# Altium integrated library TI Power Management Battery Management.IntLib: 949 symbols (part 15 of 62)
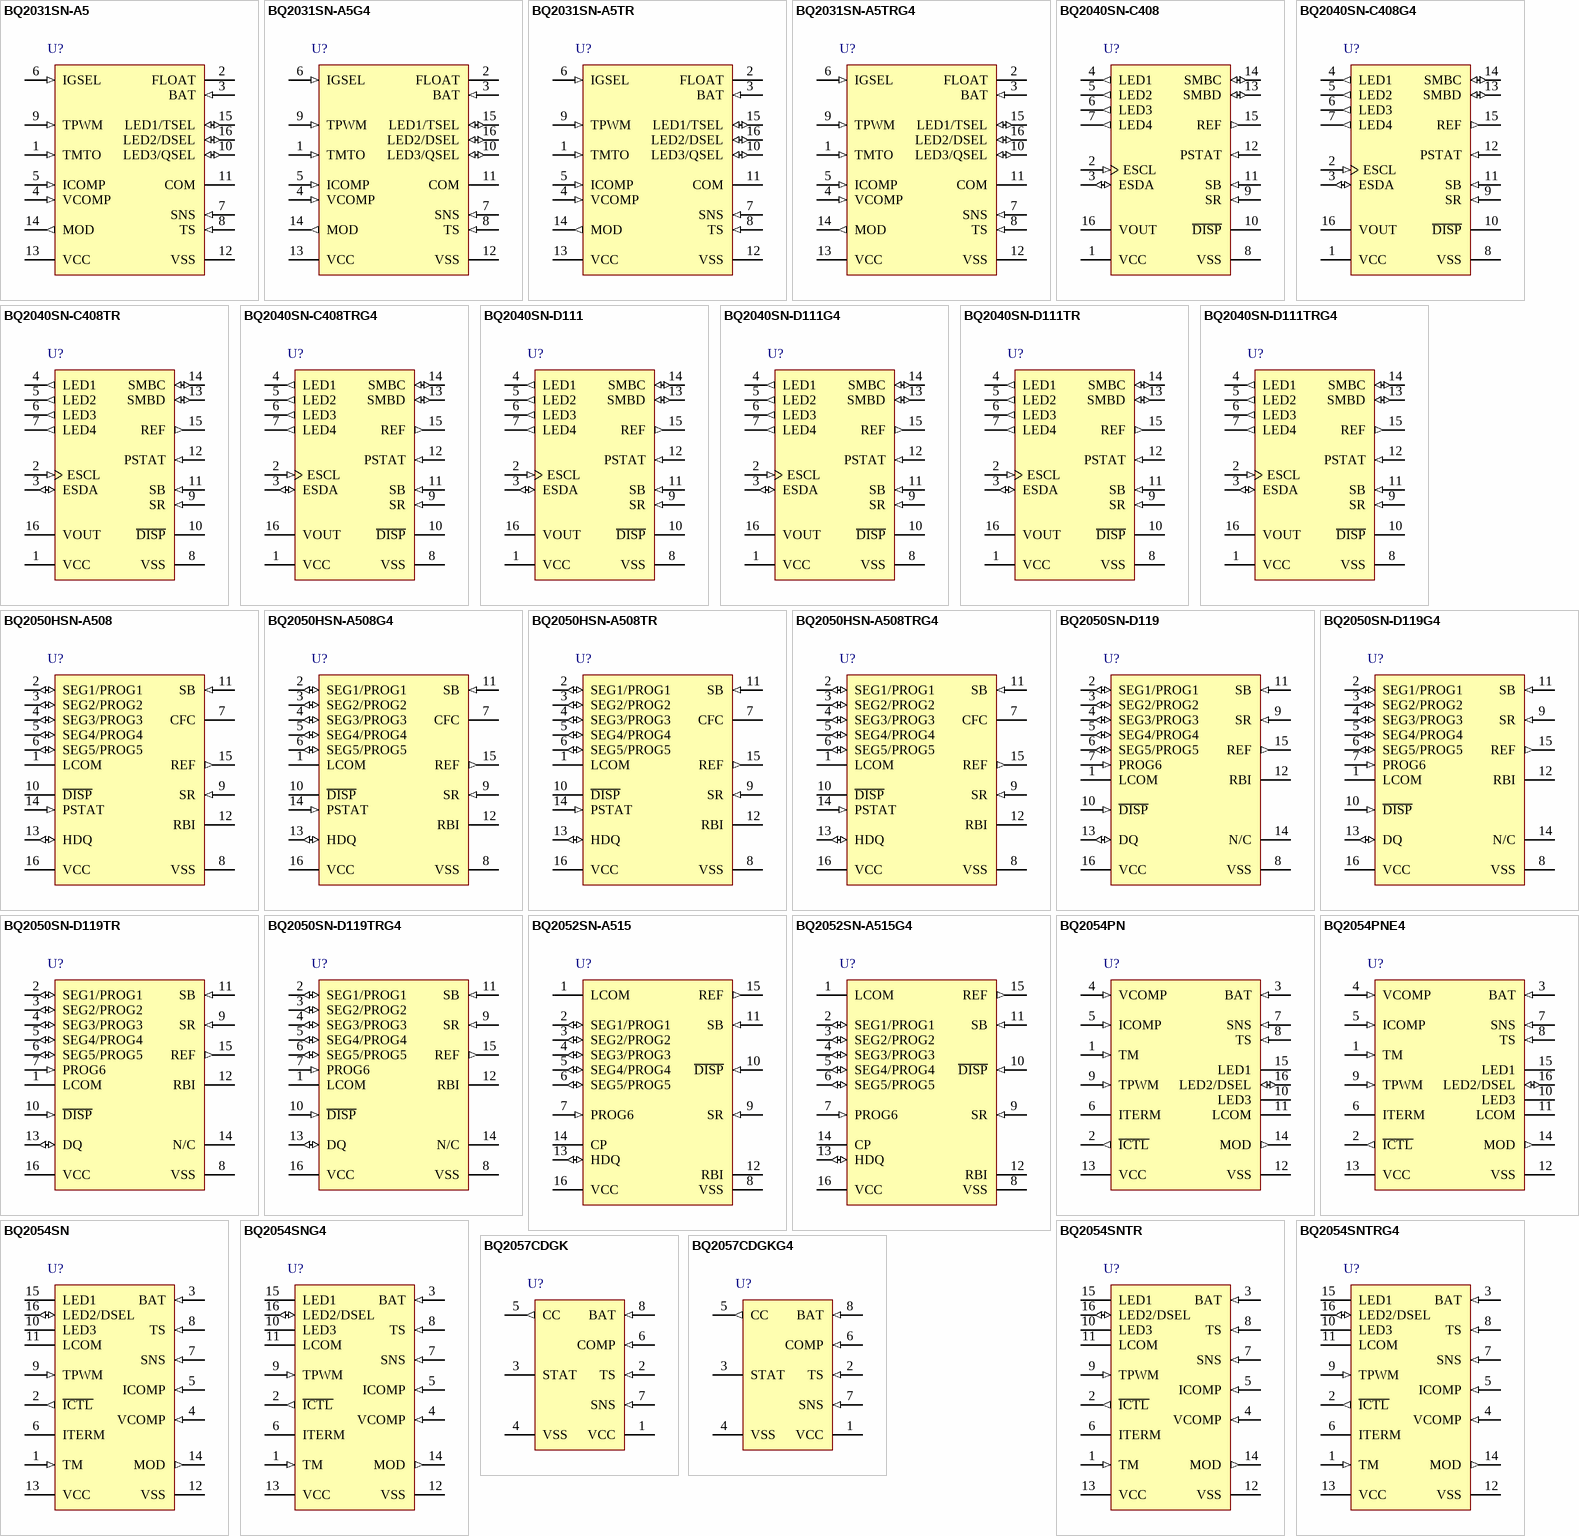
[diagram p48: symbols BQ2031SN-A5 to BQ2057CDGKG4]

## BQ2050SN-D119
designator U?
Li-Ion Gas Gauge with High-Speed 1-Wire (HDQ) Interface and 5 LED Drivers, 0 to 70 degC, 16-pin SOIC (D), Green (RoHS & no Sb/Br); PartNumber: BQ2050SN-D119; Manufacturer: Texas Instruments; Lead Acid: N; Li-Ion: Y; SubFamily: Battery Fuel Gauge; PackageVersion: revM, Jun-2011; PackageReference: D16; PackageDescription: 16-Pin Plastic Small Outline Integrated Circuit, 9.9 x 3.9 mm, Pitch 1.27 mm Pitch; Supplier 1: Digi-Key; Supplier Part Number 1: 296-2225-5-ND; Supplier 2: Newark; Supplier Part Number 2: 35C1600; Supplier 3: Mouser; Supplier Part Number 3: 595-BQ2050SN-D119; Eco-Plan: Green (RoHS & no Sb/Br); Li-Polymer: N; NiCd: N; NiMH: N; Over Voltage Protection: N; Mounting Technology: Surface Mount; Code_JEDEC: MS-012AC; ComponentLink1Description: Datasheet; ComponentLink1URL: http://www.ti.com/general/docs/lit/getliterature.tsp?genericPartNumber=BQ2050&fileType=pdf
footprint D16_N (SOIC, 16-Leads, Body 9.9x3.9mm, Pitch 1.27mm, IPC Medium Density)
footprint D16_L (SOIC, 16-Leads, Body 9.9x3.9mm, Pitch 1.27mm, IPC High Density)
footprint D16_M (SOIC, 16-Leads, Body 9.9x3.9mm, Pitch 1.27mm, IPC Low Density)
pins: 1 LCOM (hiz) "Open-drain output switches VCC to source current for the LEDs. The switch is off during initialization to allow reading of the soft pull-up or pull-down program resistors.LCOM is also high impedance when the display is off.", 2 SEG1/PROG1 (io) "Each output may activate an LED to sink the current sourced from LCOM./These three-level input pins define the programmed full count (PFC) thresholds described in Table 2.", 3 SEG2/PROG2 (io) "Each output may activate an LED to sink the current sourced from LCOM./These three-level input pins define the programmed full count (PFC) thresholds described in Table 2.", 4 SEG3/PROG3 (io) "Each output may activate an LED to sink the current sourced from LCOM./These three-level input pins define the scale factor described in Table 2.", 5 SEG4/PROG4 (io) "Each output may activate an LED to sink the current sourced from LCOM./These three-level input pins define the scale factor described in Table 2.", 6 SEG5/PROG5 (io) "Each output may activate an LED to sink the current sourced from LCOM./This three-level input pin defines the selfdischarge and battery compensation factors as shown in Table 1.", 7 PROG6 (in) "This three-level pin defines the battery state of charge at reset as shown in Table 1.", 8 VSS (power) "Ground", 9 SR (in) "The voltage drop (VSR) across the sense resistor RS is monitored and integrated over time to interpret charge and discharge activity.The SR input is tied between the negative terminal of the battery and the sense resistor.(See Datasheet)", 10 ~{DISP} (in) "D\I\S\P\ high disables the LED display.D\I\S\P\ tied to VCC allows PROGX to connect directly to VCC or VSS instead of through a pull-up or pull-down resistor.D\I\S\P\ floating allows the LED display to be active during (See Datasheet)", 11 SB (in) "This input monitors the battery cell voltage potential through a high-impedance resistive divider network for end-of-discharge voltage (EDV) thresholds, and battery removed.", 12 RBI (power) "This pin is used to provide backup potential to the bq2050 registers during periods when VCC =< 3V. A storage capacitor or a battery can be connected to RBI.", 13 DQ (io) "This is an open-drain bidirectional pin.", 14 N/C "No connect", 15 REF (out) "REF provides a voltage reference output for an optional micro-regulator.", 16 VCC (power) "Supply voltage input"

## BQ2050SN-D119G4
designator U?
Li-Ion Gas Gauge with High-Speed 1-Wire (HDQ) Interface and 5 LED Drivers, 0 to 70 degC, 16-pin SOIC (D), Green (RoHS & no Sb/Br); PartNumber: BQ2050SN-D119G4; Manufacturer: Texas Instruments; Lead Acid: N; Li-Ion: Y; SubFamily: Battery Fuel Gauge; PackageVersion: revM, Jun-2011; PackageReference: D16; PackageDescription: 16-Pin Plastic Small Outline Integrated Circuit, 9.9 x 3.9 mm, Pitch 1.27 mm Pitch; Supplier 1: Digi-Key; Supplier Part Number 1: BQ2050SN-D119G4-ND; Supplier 2: Newark; Supplier Part Number 2: 69K8924; Supplier 3: Mouser; Supplier Part Number 3: 595-BQ2050SN-D119G4; Eco-Plan: Green (RoHS & no Sb/Br); Li-Polymer: N; NiCd: N; NiMH: N; Over Voltage Protection: N; Mounting Technology: Surface Mount; Code_JEDEC: MS-012AC; ComponentLink1Description: Datasheet; ComponentLink1URL: http://www.ti.com/general/docs/lit/getliterature.tsp?genericPartNumber=BQ2050&fileType=pdf
footprint D16_N (SOIC, 16-Leads, Body 9.9x3.9mm, Pitch 1.27mm, IPC Medium Density)
footprint D16_L (SOIC, 16-Leads, Body 9.9x3.9mm, Pitch 1.27mm, IPC High Density)
footprint D16_M (SOIC, 16-Leads, Body 9.9x3.9mm, Pitch 1.27mm, IPC Low Density)
pins: 1 LCOM (hiz) "Open-drain output switches VCC to source current for the LEDs. The switch is off during initialization to allow reading of the soft pull-up or pull-down program resistors.LCOM is also high impedance when the display is off.", 2 SEG1/PROG1 (io) "Each output may activate an LED to sink the current sourced from LCOM./These three-level input pins define the programmed full count (PFC) thresholds described in Table 2.", 3 SEG2/PROG2 (io) "Each output may activate an LED to sink the current sourced from LCOM./These three-level input pins define the programmed full count (PFC) thresholds described in Table 2.", 4 SEG3/PROG3 (io) "Each output may activate an LED to sink the current sourced from LCOM./These three-level input pins define the scale factor described in Table 2.", 5 SEG4/PROG4 (io) "Each output may activate an LED to sink the current sourced from LCOM./These three-level input pins define the scale factor described in Table 2.", 6 SEG5/PROG5 (io) "Each output may activate an LED to sink the current sourced from LCOM./This three-level input pin defines the selfdischarge and battery compensation factors as shown in Table 1.", 7 PROG6 (in) "This three-level pin defines the battery state of charge at reset as shown in Table 1.", 8 VSS (power) "Ground", 9 SR (in) "The voltage drop (VSR) across the sense resistor RS is monitored and integrated over time to interpret charge and discharge activity.The SR input is tied between the negative terminal of the battery and the sense resistor.(See Datasheet)", 10 ~{DISP} (in) "D\I\S\P\ high disables the LED display.D\I\S\P\ tied to VCC allows PROGX to connect directly to VCC or VSS instead of through a pull-up or pull-down resistor.D\I\S\P\ floating allows the LED display to be active during (See Datasheet)", 11 SB (in) "This input monitors the battery cell voltage potential through a high-impedance resistive divider network for end-of-discharge voltage (EDV) thresholds, and battery removed.", 12 RBI (power) "This pin is used to provide backup potential to the bq2050 registers during periods when VCC =< 3V. A storage capacitor or a battery can be connected to RBI.", 13 DQ (io) "This is an open-drain bidirectional pin.", 14 N/C "No connect", 15 REF (out) "REF provides a voltage reference output for an optional micro-regulator.", 16 VCC (power) "Supply voltage input"

## BQ2050SN-D119TR
designator U?
Li-Ion Gas Gauge with High-Speed 1-Wire (HDQ) Interface and 5 LED Drivers, 0 to 70 degC, 16-pin SOIC (D), Green (RoHS & no Sb/Br); PartNumber: BQ2050SN-D119TR; Manufacturer: Texas Instruments; Lead Acid: N; Li-Ion: Y; SubFamily: Battery Fuel Gauge; PackageVersion: revM, Jun-2011; PackageReference: D16; PackageDescription: 16-Pin Plastic Small Outline Integrated Circuit, 9.9 x 3.9 mm, Pitch 1.27 mm Pitch; Supplier 1: Digi-Key; Supplier Part Number 1: BQ2050SN-D119TR-ND; Supplier 2: Newark; Supplier Part Number 2: 74C7578; Supplier 3: Mouser; Supplier Part Number 3: 595-BQ2050SN-D119TR; Eco-Plan: Green (RoHS & no Sb/Br); Li-Polymer: N; NiCd: N; NiMH: N; Over Voltage Protection: N; Mounting Technology: Surface Mount; Code_JEDEC: MS-012AC; ComponentLink1Description: Datasheet; ComponentLink1URL: http://www.ti.com/general/docs/lit/getliterature.tsp?genericPartNumber=BQ2050&fileType=pdf
footprint D16_N (SOIC, 16-Leads, Body 9.9x3.9mm, Pitch 1.27mm, IPC Medium Density)
footprint D16_L (SOIC, 16-Leads, Body 9.9x3.9mm, Pitch 1.27mm, IPC High Density)
footprint D16_M (SOIC, 16-Leads, Body 9.9x3.9mm, Pitch 1.27mm, IPC Low Density)
pins: 1 LCOM (hiz) "Open-drain output switches VCC to source current for the LEDs. The switch is off during initialization to allow reading of the soft pull-up or pull-down program resistors.LCOM is also high impedance when the display is off.", 2 SEG1/PROG1 (io) "Each output may activate an LED to sink the current sourced from LCOM./These three-level input pins define the programmed full count (PFC) thresholds described in Table 2.", 3 SEG2/PROG2 (io) "Each output may activate an LED to sink the current sourced from LCOM./These three-level input pins define the programmed full count (PFC) thresholds described in Table 2.", 4 SEG3/PROG3 (io) "Each output may activate an LED to sink the current sourced from LCOM./These three-level input pins define the scale factor described in Table 2.", 5 SEG4/PROG4 (io) "Each output may activate an LED to sink the current sourced from LCOM./These three-level input pins define the scale factor described in Table 2.", 6 SEG5/PROG5 (io) "Each output may activate an LED to sink the current sourced from LCOM./This three-level input pin defines the selfdischarge and battery compensation factors as shown in Table 1.", 7 PROG6 (in) "This three-level pin defines the battery state of charge at reset as shown in Table 1.", 8 VSS (power) "Ground", 9 SR (in) "The voltage drop (VSR) across the sense resistor RS is monitored and integrated over time to interpret charge and discharge activity.The SR input is tied between the negative terminal of the battery and the sense resistor.(See Datasheet)", 10 ~{DISP} (in) "D\I\S\P\ high disables the LED display.D\I\S\P\ tied to VCC allows PROGX to connect directly to VCC or VSS instead of through a pull-up or pull-down resistor.D\I\S\P\ floating allows the LED display to be active during (See Datasheet)", 11 SB (in) "This input monitors the battery cell voltage potential through a high-impedance resistive divider network for end-of-discharge voltage (EDV) thresholds, and battery removed.", 12 RBI (power) "This pin is used to provide backup potential to the bq2050 registers during periods when VCC =< 3V. A storage capacitor or a battery can be connected to RBI.", 13 DQ (io) "This is an open-drain bidirectional pin.", 14 N/C "No connect", 15 REF (out) "REF provides a voltage reference output for an optional micro-regulator.", 16 VCC (power) "Supply voltage input"

## BQ2050SN-D119TRG4
designator U?
Li-Ion Gas Gauge with High-Speed 1-Wire (HDQ) Interface and 5 LED Drivers, 0 to 70 degC, 16-pin SOIC (D), Green (RoHS & no Sb/Br); PartNumber: BQ2050SN-D119TRG4; Manufacturer: Texas Instruments; Lead Acid: N; Li-Ion: Y; SubFamily: Battery Fuel Gauge; PackageVersion: revM, Jun-2011; PackageReference: D16; PackageDescription: 16-Pin Plastic Small Outline Integrated Circuit, 9.9 x 3.9 mm, Pitch 1.27 mm Pitch; Supplier 1: Digi-Key; Supplier Part Number 1: BQ2050SN-D119TRG4-ND; Supplier 2: Newark; Supplier Part Number 2: 53K9220; Supplier 3: Mouser; Supplier Part Number 3: 595-BQ2050SND119TRG4; Eco-Plan: Green (RoHS & no Sb/Br); Li-Polymer: N; NiCd: N; NiMH: N; Over Voltage Protection: N; Mounting Technology: Surface Mount; Code_JEDEC: MS-012AC; ComponentLink1Description: Datasheet; ComponentLink1URL: http://www.ti.com/general/docs/lit/getliterature.tsp?genericPartNumber=BQ2050&fileType=pdf
footprint D16_N (SOIC, 16-Leads, Body 9.9x3.9mm, Pitch 1.27mm, IPC Medium Density)
footprint D16_L (SOIC, 16-Leads, Body 9.9x3.9mm, Pitch 1.27mm, IPC High Density)
footprint D16_M (SOIC, 16-Leads, Body 9.9x3.9mm, Pitch 1.27mm, IPC Low Density)
pins: 1 LCOM (hiz) "Open-drain output switches VCC to source current for the LEDs. The switch is off during initialization to allow reading of the soft pull-up or pull-down program resistors.LCOM is also high impedance when the display is off.", 2 SEG1/PROG1 (io) "Each output may activate an LED to sink the current sourced from LCOM./These three-level input pins define the programmed full count (PFC) thresholds described in Table 2.", 3 SEG2/PROG2 (io) "Each output may activate an LED to sink the current sourced from LCOM./These three-level input pins define the programmed full count (PFC) thresholds described in Table 2.", 4 SEG3/PROG3 (io) "Each output may activate an LED to sink the current sourced from LCOM./These three-level input pins define the scale factor described in Table 2.", 5 SEG4/PROG4 (io) "Each output may activate an LED to sink the current sourced from LCOM./These three-level input pins define the scale factor described in Table 2.", 6 SEG5/PROG5 (io) "Each output may activate an LED to sink the current sourced from LCOM./This three-level input pin defines the selfdischarge and battery compensation factors as shown in Table 1.", 7 PROG6 (in) "This three-level pin defines the battery state of charge at reset as shown in Table 1.", 8 VSS (power) "Ground", 9 SR (in) "The voltage drop (VSR) across the sense resistor RS is monitored and integrated over time to interpret charge and discharge activity.The SR input is tied between the negative terminal of the battery and the sense resistor.(See Datasheet)", 10 ~{DISP} (in) "D\I\S\P\ high disables the LED display.D\I\S\P\ tied to VCC allows PROGX to connect directly to VCC or VSS instead of through a pull-up or pull-down resistor.D\I\S\P\ floating allows the LED display to be active during (See Datasheet)", 11 SB (in) "This input monitors the battery cell voltage potential through a high-impedance resistive divider network for end-of-discharge voltage (EDV) thresholds, and battery removed.", 12 RBI (power) "This pin is used to provide backup potential to the bq2050 registers during periods when VCC =< 3V. A storage capacitor or a battery can be connected to RBI.", 13 DQ (io) "This is an open-drain bidirectional pin.", 14 N/C "No connect", 15 REF (out) "REF provides a voltage reference output for an optional micro-regulator.", 16 VCC (power) "Supply voltage input"

## BQ2052SN-A515
designator U?
Primary Lithium Gas Gauge with High-Speed 1-Wire (HDQ) Interface, 3 Prgmable LED Patterns, -20 to 70 degC, 16-pin SOIC (D), Green (RoHS & no Sb/Br); PartNumber: BQ2052SN-A515; Manufacturer: Texas Instruments; Lead Acid: N; SubFamily: Battery Fuel Gauge; DatasheetVersion: SLUS019; PackageVersion: revM, Jun-2011; PackageReference: D16; PackageDescription: 16-Pin Plastic Small Outline Integrated Circuit, 9.9 x 3.9 mm, Pitch 1.27 mm Pitch; Supplier 1: Digi-Key; Supplier Part Number 1: 296-9355-5-ND; Supplier 2: Newark; Supplier Part Number 2: 74C7580; Supplier 3: Mouser; Supplier Part Number 3: 595-BQ2052SN-A515; Eco-Plan: Green (RoHS & no Sb/Br); Li-Ion: N; Li-Polymer: N; NiCd: N; NiMH: N; Over Voltage Protection: N; Mounting Technology: Surface Mount; Code_JEDEC: MS-012AC; ComponentLink1Description: Datasheet; ComponentLink1URL: http://www.ti.com/general/docs/lit/getliterature.tsp?genericPartNumber=BQ2052&fileType=pdf
footprint D16_N (SOIC, 16-Leads, Body 9.9x3.9mm, Pitch 1.27mm, IPC Medium Density)
footprint D16_L (SOIC, 16-Leads, Body 9.9x3.9mm, Pitch 1.27mm, IPC High Density)
footprint D16_M (SOIC, 16-Leads, Body 9.9x3.9mm, Pitch 1.27mm, IPC Low Density)
pins: 1 LCOM (hiz) "This open-drain output switches VCC to source current for the LEDs. The switch is off during initialization to allow reading of the soft pull-up or pull-down program resistors.LCOM is also high impedance when the display is (See Datasheet)", 2 SEG1/PROG1 (io) "Each output may activate an LED to sink the current sourced from LCOM./These three-level input pins define the programmed full count.", 3 SEG2/PROG2 (io) "Each output may activate an LED to sink the current sourced from LCOM./These three-level input pins define the programmed full count.", 4 SEG3/PROG3 (io) "Each output may activate an LED to sink the current sourced from LCOM./This three-level input pin defines the scale factor.", 5 SEG4/PROG4 (io) "Each output may activate an LED to sink the current sourced from LCOM./This three-level input pin defines the battery discharge compensation factors.", 6 SEG5/PROG5 (io) "Each output may activate an LED to sink the current sourced from LCOM./This three-level input pin defines the capacity indication display mode.", 7 PROG6 (in) "This input defines the initial battery capacity indication state.When tied to VCC,the bq2052 sets the available capacity to full on reset.When tied to VSS, the bq2052 sets the available capacity to zero on reset.", 8 VSS (power) "Ground", 9 SR (in) "The voltage drop (VSR) across the sense resistor RS is monitored and integrated over time to interpret discharge activity. VSR > VSS indicates discharge. The effective voltage drop, VSRO, as seen by the bq2052 is VSR+VOS .", 10 ~{DISP} (in) "D\I\S\P\ high disables the LED display.D\I\S\P\ tied to VCC (no display LEDs in the circuit) allows PROGX to connect directly to VCC or VSS instead of through a pull-up or pull-down resistor.D\I\S\P\ low activates the (See Datasheet)", 11 SB (in) "This input monitors the battery cell voltage potential through a high-impedance resistive divider network for the end-of-discharge voltage (EDV) thresholds.", 12 RBI (power) "This pin is used to provide backup potential to the bq2052 registers during periods when VCC =< 3V. A storage capacitor or a battery can be connected to RBI.", 13 HDQ (io) "This is the open-drain bidirectional communications port.", 14 CP (hiz) "This open drain output may be controlled by serial port commands and its state is reflected in the CPIN bit in FLGS1.", 15 REF (out) "REF provides a voltage reference output for an optional micro-regulator.", 16 VCC (power) "Supply voltage input"

## BQ2052SN-A515G4
designator U?
Primary Lithium Gas Gauge with High-Speed 1-Wire (HDQ) Interface, 3 Prgmable LED Patterns, -20 to 70 degC, 16-pin SOIC (D), Green (RoHS & no Sb/Br); PartNumber: BQ2052SN-A515G4; Manufacturer: Texas Instruments; Lead Acid: N; SubFamily: Battery Fuel Gauge; DatasheetVersion: SLUS019; PackageVersion: revM, Jun-2011; PackageReference: D16; PackageDescription: 16-Pin Plastic Small Outline Integrated Circuit, 9.9 x 3.9 mm, Pitch 1.27 mm Pitch; Supplier 1: Digi-Key; Supplier Part Number 1: BQ2052SN-A515G4-ND; Supplier 2: Newark; Supplier Part Number 2: 33M8723; Supplier 3: Mouser; Supplier Part Number 3: 595-BQ2052SN-A515G4; Eco-Plan: Green (RoHS & no Sb/Br); Li-Ion: N; Li-Polymer: N; NiCd: N; NiMH: N; Over Voltage Protection: N; Mounting Technology: Surface Mount; Code_JEDEC: MS-012AC; ComponentLink1Description: Datasheet; ComponentLink1URL: http://www.ti.com/general/docs/lit/getliterature.tsp?genericPartNumber=BQ2052&fileType=pdf
footprint D16_N (SOIC, 16-Leads, Body 9.9x3.9mm, Pitch 1.27mm, IPC Medium Density)
footprint D16_L (SOIC, 16-Leads, Body 9.9x3.9mm, Pitch 1.27mm, IPC High Density)
footprint D16_M (SOIC, 16-Leads, Body 9.9x3.9mm, Pitch 1.27mm, IPC Low Density)
pins: 1 LCOM (hiz) "This open-drain output switches VCC to source current for the LEDs. The switch is off during initialization to allow reading of the soft pull-up or pull-down program resistors.LCOM is also high impedance when the display is (See Datasheet)", 2 SEG1/PROG1 (io) "Each output may activate an LED to sink the current sourced from LCOM./These three-level input pins define the programmed full count.", 3 SEG2/PROG2 (io) "Each output may activate an LED to sink the current sourced from LCOM./These three-level input pins define the programmed full count.", 4 SEG3/PROG3 (io) "Each output may activate an LED to sink the current sourced from LCOM./This three-level input pin defines the scale factor.", 5 SEG4/PROG4 (io) "Each output may activate an LED to sink the current sourced from LCOM./This three-level input pin defines the battery discharge compensation factors.", 6 SEG5/PROG5 (io) "Each output may activate an LED to sink the current sourced from LCOM./This three-level input pin defines the capacity indication display mode.", 7 PROG6 (in) "This input defines the initial battery capacity indication state.When tied to VCC,the bq2052 sets the available capacity to full on reset.When tied to VSS, the bq2052 sets the available capacity to zero on reset.", 8 VSS (power) "Ground", 9 SR (in) "The voltage drop (VSR) across the sense resistor RS is monitored and integrated over time to interpret discharge activity. VSR > VSS indicates discharge. The effective voltage drop, VSRO, as seen by the bq2052 is VSR+VOS .", 10 ~{DISP} (in) "D\I\S\P\ high disables the LED display.D\I\S\P\ tied to VCC (no display LEDs in the circuit) allows PROGX to connect directly to VCC or VSS instead of through a pull-up or pull-down resistor.D\I\S\P\ low activates the (See Datasheet)", 11 SB (in) "This input monitors the battery cell voltage potential through a high-impedance resistive divider network for the end-of-discharge voltage (EDV) thresholds.", 12 RBI (power) "This pin is used to provide backup potential to the bq2052 registers during periods when VCC =< 3V. A storage capacitor or a battery can be connected to RBI.", 13 HDQ (io) "This is the open-drain bidirectional communications port.", 14 CP (hiz) "This open drain output may be controlled by serial port commands and its state is reflected in the CPIN bit in FLGS1.", 15 REF (out) "REF provides a voltage reference output for an optional micro-regulator.", 16 VCC (power) "Supply voltage input"

## BQ2054PN
designator U?
Switch-Mode Li-Ion Battery Charger in PDIP or SOIC Package, 4.5 V, -20 to 70 degC, 16-pin PDIP (N), Pb-Free (RoHS); PartNumber: BQ2054PN; Manufacturer: Texas Instruments; Li-Ion: Y; SubFamily: Battery Charge Management; Vin(Min)(V): 4.5; PackageVersion: revE, Dec-2002; PackageReference: N16; PackageDescription: 16-Pin Plastic Dual-In-Line Package, Row Spacing 7.62 mm, Pitch 2.54 mm; Supplier 1: Digi-Key; Supplier Part Number 1: 296-9356-5-ND; Supplier 2: Newark; Supplier Part Number 2: 74C7582; Supplier 3: Mouser; Supplier Part Number 3: 595-BQ2054PN; Eco-Plan: Pb-Free (RoHS); Lead Acid: N; Li-Polymer: Y; NiCd: N; NiMH: N; Over Voltage Protection: N; Mounting Technology: Through Hole; Code_JEDEC: MS-001*; ComponentLink1Description: Datasheet; ComponentLink1URL: http://www.ti.com/general/docs/lit/getliterature.tsp?genericPartNumber=BQ2054&fileType=pdf
footprint N16 (DIP, 16-Leads, Row Spacing 7.62mm, Pitch 2.54mm, Body 19.3x6.4mm)
pins: 1 TM (in) "This input sets the maximum charge time.The resistor and capacitor values are determined using Equation 5. Figure 7 shows the resistor/capacitor connection.", 2 ~{ICTL} (out) "I\C\T\L\ is driven low during the fault or charge-complete states of the chip. It is used to disconnect the capacitor across the battery pack terminals, preventing inrush currents from tripping overcurrent protection (See Datasheet)", 3 BAT (in) "BAT is the battery voltage sense input. This potential is generally developed using a high-impedance resistor divider network connected between the positive and the negative terminals of the battery. See Figure 4 and (See Datasheet)", 4 VCOMP (in) "This input uses an external R-C network for voltage loop stability.", 5 ICOMP (in) "This input uses an external R-C network for current loop stability.", 6 ITERM "This three-state input is used to set IMIN for fast charge termination. See Table 2.", 7 SNS (in) "Battery current is sensed via the voltage developed on this pin by an external sense resistor,RSNS, connected in series with the negative terminal of the battery pack. See Equation 6.", 8 TS (in) "This input is used to monitor battery temperature.An external resistor divider network sets the lower and upper temperature thresholds.See Figure 6 and Equations 3 and 4.", 9 TPWM (in) "This input uses an external timing capacitor to ground to set the pulse-width modulation (PWM) frequency. See Equation 7.", 10 LED3 (hiz) "These charger status output drivers are for the direct drive of the LED display. Display modes are shown in Table 1. These outputs are tri-stated during initialization so that DSEL can be read.", 11 LCOM (hiz) "Common output for LED1-3. This output is in a high-impedance state during initialization to read programming input on DSEL.", 12 VSS (power) "Ground", 13 VCC (power) "5.0V, +/- 10% power", 14 MOD (out) "MOD is a pulse-width modulated push/pull output that is used to control the charging current to the battery. MOD switches high to enable current flow and low to inhibit current flow.", 15 LED1 (hiz) "These charger status output drivers are for the direct drive of the LED display. Display modes are shown in Table 1. These outputs are tri-stated during initialization so that DSEL can be read.", 16 LED2/DSEL (io) "These charger status output drivers are for the direct drive of the LED display. Display modes are shown in Table 1. These outputs are tri-stated during initialization so that DSEL can be read./This three-level input (See Datasheet)"

## BQ2054PNE4
designator U?
Switch-Mode Li-Ion Battery Charger in PDIP or SOIC Package, 4.5 V, -20 to 70 degC, 16-pin PDIP (N), Pb-Free (RoHS); PartNumber: BQ2054PNE4; Manufacturer: Texas Instruments; Li-Ion: Y; SubFamily: Battery Charge Management; Vin(Min)(V): 4.5; PackageVersion: revE, Dec-2002; PackageReference: N16; PackageDescription: 16-Pin Plastic Dual-In-Line Package, Row Spacing 7.62 mm, Pitch 2.54 mm; Supplier 1: Digi-Key; Supplier Part Number 1: BQ2054PNE4-ND; Supplier 2: Newark; Supplier Part Number 2: 28M4688; Supplier 3: Mouser; Supplier Part Number 3: 595-BQ2054PNE4; Eco-Plan: Pb-Free (RoHS); Lead Acid: N; Li-Polymer: Y; NiCd: N; NiMH: N; Over Voltage Protection: N; Mounting Technology: Through Hole; Code_JEDEC: MS-001*; ComponentLink1Description: Datasheet; ComponentLink1URL: http://www.ti.com/general/docs/lit/getliterature.tsp?genericPartNumber=BQ2054&fileType=pdf
footprint N16 (DIP, 16-Leads, Row Spacing 7.62mm, Pitch 2.54mm, Body 19.3x6.4mm)
pins: 1 TM (in) "This input sets the maximum charge time.The resistor and capacitor values are determined using Equation 5. Figure 7 shows the resistor/capacitor connection.", 2 ~{ICTL} (out) "I\C\T\L\ is driven low during the fault or charge-complete states of the chip. It is used to disconnect the capacitor across the battery pack terminals, preventing inrush currents from tripping overcurrent protection (See Datasheet)", 3 BAT (in) "BAT is the battery voltage sense input. This potential is generally developed using a high-impedance resistor divider network connected between the positive and the negative terminals of the battery. See Figure 4 and (See Datasheet)", 4 VCOMP (in) "This input uses an external R-C network for voltage loop stability.", 5 ICOMP (in) "This input uses an external R-C network for current loop stability.", 6 ITERM "This three-state input is used to set IMIN for fast charge termination. See Table 2.", 7 SNS (in) "Battery current is sensed via the voltage developed on this pin by an external sense resistor,RSNS, connected in series with the negative terminal of the battery pack. See Equation 6.", 8 TS (in) "This input is used to monitor battery temperature.An external resistor divider network sets the lower and upper temperature thresholds.See Figure 6 and Equations 3 and 4.", 9 TPWM (in) "This input uses an external timing capacitor to ground to set the pulse-width modulation (PWM) frequency. See Equation 7.", 10 LED3 (hiz) "These charger status output drivers are for the direct drive of the LED display. Display modes are shown in Table 1. These outputs are tri-stated during initialization so that DSEL can be read.", 11 LCOM (hiz) "Common output for LED1-3. This output is in a high-impedance state during initialization to read programming input on DSEL.", 12 VSS (power) "Ground", 13 VCC (power) "5.0V, +/- 10% power", 14 MOD (out) "MOD is a pulse-width modulated push/pull output that is used to control the charging current to the battery. MOD switches high to enable current flow and low to inhibit current flow.", 15 LED1 (hiz) "These charger status output drivers are for the direct drive of the LED display. Display modes are shown in Table 1. These outputs are tri-stated during initialization so that DSEL can be read.", 16 LED2/DSEL (io) "These charger status output drivers are for the direct drive of the LED display. Display modes are shown in Table 1. These outputs are tri-stated during initialization so that DSEL can be read./This three-level input (See Datasheet)"

## BQ2054SN
designator U?
Switch-Mode Li-Ion Battery Charger in PDIP or SOIC Package, 4.5 V, -20 to 70 degC, 16-pin SOIC (D), Green (RoHS & no Sb/Br); PartNumber: BQ2054SN; Manufacturer: Texas Instruments; Lead Acid: N; Li-Ion: Y; SubFamily: Battery Charge Management; Vin(Min)(V): 4.5; PackageVersion: revM, Jun-2011; PackageReference: D16; PackageDescription: 16-Pin Plastic Small Outline Integrated Circuit, 9.9 x 3.9 mm, Pitch 1.27 mm Pitch; Supplier 1: Digi-Key; Supplier Part Number 1: 296-9357-5-ND; Supplier 2: Newark; Supplier Part Number 2: 74C7583; Supplier 3: Mouser; Supplier Part Number 3: 595-BQ2054SN; Eco-Plan: Green (RoHS & no Sb/Br); Li-Polymer: Y; NiCd: N; NiMH: N; Over Voltage Protection: N; Mounting Technology: Surface Mount; Code_JEDEC: MS-012AC; ComponentLink1Description: Datasheet; ComponentLink1URL: http://www.ti.com/general/docs/lit/getliterature.tsp?genericPartNumber=BQ2054&fileType=pdf
footprint D16_N (SOIC, 16-Leads, Body 9.9x3.9mm, Pitch 1.27mm, IPC Medium Density)
footprint D16_L (SOIC, 16-Leads, Body 9.9x3.9mm, Pitch 1.27mm, IPC High Density)
footprint D16_M (SOIC, 16-Leads, Body 9.9x3.9mm, Pitch 1.27mm, IPC Low Density)
pins: 1 TM (in) "This input sets the maximum charge time.The resistor and capacitor values are determined using Equation 5. Figure 7 shows the resistor/capacitor connection.", 2 ~{ICTL} (out) "I\C\T\L\ is driven low during the fault or charge-complete states of the chip. It is used to disconnect the capacitor across the battery pack terminals, preventing inrush currents from tripping overcurrent protection (See Datasheet)", 3 BAT (in) "BAT is the battery voltage sense input. This potential is generally developed using a high-impedance resistor divider network connected between the positive and the negative terminals of the battery. See Figure 4 and (See Datasheet)", 4 VCOMP (in) "This input uses an external R-C network for voltage loop stability", 5 ICOMP (in) "This input uses an external R-C network for current loop stability.", 6 ITERM "This three-state input is used to set IMIN for fast charge termination. See Table 2.", 7 SNS (in) "Battery current is sensed via the voltage developed on this pin by an external sense resistor,RSNS, connected in series with the negative terminal of the battery pack. See Equation 6.", 8 TS (in) "This input is used to monitor battery temperature.An external resistor divider network sets the lower and upper temperature thresholds.See Figure 6 and Equations 3 and 4.", 9 TPWM (in) "This input uses an external timing capacitor to ground to set the pulse-width modulation (PWM) frequency. See Equation 7.", 10 LED3 (hiz) "This charger status output driver is for the direct drive of the LED display. Display modes are shown in Table 1. These outputs are tri-stated during initialization so that DSEL can be read.", 11 LCOM (hiz) "Common output for LED1-3. This output is in a high-impedance state during initialization to read programming input on DSEL.", 12 VSS (power) "Ground", 13 VCC (power) "5.0V, +/- 10% power", 14 MOD (out) "MOD is a pulse-width modulated push/pull output that is used to control the charging current to the battery. MOD switches high to enable current flow and low to inhibit current flow.", 15 LED1 (hiz) "This charger status output driver is for the direct drive of the LED display. Display modes are shown in Table 1. This output is tri-stated during initialization so that DSEL can be read.", 16 LED2/DSEL (io) "This charger status output driver is for the direct drive of the LED display. Display modes are shown in Table 1. This output is tri-stated during initialization so that DSEL can be read./This three-level input controls the (See Datasheet)"

## BQ2054SNG4
designator U?
Switch-Mode Li-Ion Battery Charger in PDIP or SOIC Package, 4.5 V, -20 to 70 degC, 16-pin SOIC (D), Green (RoHS & no Sb/Br); PartNumber: BQ2054SNG4; Manufacturer: Texas Instruments; Lead Acid: N; Li-Ion: Y; SubFamily: Battery Charge Management; Vin(Min)(V): 4.5; PackageVersion: revM, Jun-2011; PackageReference: D16; PackageDescription: 16-Pin Plastic Small Outline Integrated Circuit, 9.9 x 3.9 mm, Pitch 1.27 mm Pitch; Supplier 1: Digi-Key; Supplier Part Number 1: BQ2054SNG4-ND; Supplier 2: Newark; Supplier Part Number 2: 53K9222; Supplier 3: Mouser; Supplier Part Number 3: 595-BQ2054SNG4; Eco-Plan: Green (RoHS & no Sb/Br); Li-Polymer: Y; NiCd: N; NiMH: N; Over Voltage Protection: N; Mounting Technology: Surface Mount; Code_JEDEC: MS-012AC; ComponentLink1Description: Datasheet; ComponentLink1URL: http://www.ti.com/general/docs/lit/getliterature.tsp?genericPartNumber=BQ2054&fileType=pdf
footprint D16_N (SOIC, 16-Leads, Body 9.9x3.9mm, Pitch 1.27mm, IPC Medium Density)
footprint D16_L (SOIC, 16-Leads, Body 9.9x3.9mm, Pitch 1.27mm, IPC High Density)
footprint D16_M (SOIC, 16-Leads, Body 9.9x3.9mm, Pitch 1.27mm, IPC Low Density)
pins: 1 TM (in) "This input sets the maximum charge time.The resistor and capacitor values are determined using Equation 5. Figure 7 shows the resistor/capacitor connection.", 2 ~{ICTL} (out) "I\C\T\L\ is driven low during the fault or charge-complete states of the chip. It is used to disconnect the capacitor across the battery pack terminals, preventing inrush currents from tripping overcurrent protection (See Datasheet)", 3 BAT (in) "BAT is the battery voltage sense input. This potential is generally developed using a high-impedance resistor divider network connected between the positive and the negative terminals of the battery. See Figure 4 and (See Datasheet)", 4 VCOMP (in) "This input uses an external R-C network for voltage loop stability", 5 ICOMP (in) "This input uses an external R-C network for current loop stability.", 6 ITERM "This three-state input is used to set IMIN for fast charge termination. See Table 2.", 7 SNS (in) "Battery current is sensed via the voltage developed on this pin by an external sense resistor,RSNS, connected in series with the negative terminal of the battery pack. See Equation 6.", 8 TS (in) "This input is used to monitor battery temperature.An external resistor divider network sets the lower and upper temperature thresholds.See Figure 6 and Equations 3 and 4.", 9 TPWM (in) "This input uses an external timing capacitor to ground to set the pulse-width modulation (PWM) frequency. See Equation 7.", 10 LED3 (hiz) "This charger status output driver is for the direct drive of the LED display. Display modes are shown in Table 1. These outputs are tri-stated during initialization so that DSEL can be read.", 11 LCOM (hiz) "Common output for LED1-3. This output is in a high-impedance state during initialization to read programming input on DSEL.", 12 VSS (power) "Ground", 13 VCC (power) "5.0V, +/- 10% power", 14 MOD (out) "MOD is a pulse-width modulated push/pull output that is used to control the charging current to the battery. MOD switches high to enable current flow and low to inhibit current flow.", 15 LED1 (hiz) "This charger status output driver is for the direct drive of the LED display. Display modes are shown in Table 1. This output is tri-stated during initialization so that DSEL can be read.", 16 LED2/DSEL (io) "This charger status output driver is for the direct drive of the LED display. Display modes are shown in Table 1. This output is tri-stated during initialization so that DSEL can be read./This three-level input controls the (See Datasheet)"

## BQ2054SNTR
designator U?
Switch-Mode Li-Ion Battery Charger in PDIP or SOIC Package, 4.5 V, 16-pin SOIC (D), Green (RoHS & no Sb/Br); PartNumber: BQ2054SNTR; Manufacturer: Texas Instruments; Lead Acid: N; Li-Ion: Y; SubFamily: Battery Charge Management; Vin(Min)(V): 4.5; PackageVersion: revM, Jun-2011; PackageReference: D16; PackageDescription: 16-Pin Plastic Small Outline Integrated Circuit, 9.9 x 3.9 mm, Pitch 1.27 mm Pitch; Supplier 1: Digi-Key; Supplier Part Number 1: BQ2054SNTR-ND; Supplier 2: Newark; Supplier Part Number 2: 74C7584; Supplier 3: Mouser; Supplier Part Number 3: 595-BQ2054SNTR; Eco-Plan: Green (RoHS & no Sb/Br); Li-Polymer: Y; NiCd: N; NiMH: N; Over Voltage Protection: N; Mounting Technology: Surface Mount; Code_JEDEC: MS-012AC; ComponentLink1Description: Datasheet; ComponentLink1URL: http://www.ti.com/general/docs/lit/getliterature.tsp?genericPartNumber=BQ2054&fileType=pdf
footprint D16_N (SOIC, 16-Leads, Body 9.9x3.9mm, Pitch 1.27mm, IPC Medium Density)
footprint D16_L (SOIC, 16-Leads, Body 9.9x3.9mm, Pitch 1.27mm, IPC High Density)
footprint D16_M (SOIC, 16-Leads, Body 9.9x3.9mm, Pitch 1.27mm, IPC Low Density)
pins: 1 TM (in) "This input sets the maximum charge time.The resistor and capacitor values are determined using Equation 5. Figure 7 shows the resistor/capacitor connection.", 2 ~{ICTL} (out) "I\C\T\L\ is driven low during the fault or charge-complete states of the chip. It is used to disconnect the capacitor across the battery pack terminals, preventing inrush currents from tripping overcurrent protection (See Datasheet)", 3 BAT (in) "BAT is the battery voltage sense input. This potential is generally developed using a high-impedance resistor divider network connected between the positive and the negative terminals of the battery. See Figure 4 and (See Datasheet)", 4 VCOMP (in) "This input uses an external R-C network for voltage loop stability", 5 ICOMP (in) "This input uses an external R-C network for current loop stability.", 6 ITERM "This three-state input is used to set IMIN for fast charge termination. See Table 2.", 7 SNS (in) "Battery current is sensed via the voltage developed on this pin by an external sense resistor,RSNS, connected in series with the negative terminal of the battery pack. See Equation 6.", 8 TS (in) "This input is used to monitor battery temperature.An external resistor divider network sets the lower and upper temperature thresholds.See Figure 6 and Equations 3 and 4.", 9 TPWM (in) "This input uses an external timing capacitor to ground to set the pulse-width modulation (PWM) frequency. See Equation 7.", 10 LED3 (hiz) "This charger status output driver is for the direct drive of the LED display. Display modes are shown in Table 1. These outputs are tri-stated during initialization so that DSEL can be read.", 11 LCOM (hiz) "Common output for LED1-3. This output is in a high-impedance state during initialization to read programming input on DSEL.", 12 VSS (power) "Ground", 13 VCC (power) "5.0V, +/- 10% power", 14 MOD (out) "MOD is a pulse-width modulated push/pull output that is used to control the charging current to the battery. MOD switches high to enable current flow and low to inhibit current flow.", 15 LED1 (hiz) "This charger status output driver is for the direct drive of the LED display. Display modes are shown in Table 1. This output is tri-stated during initialization so that DSEL can be read.", 16 LED2/DSEL (io) "This charger status output driver is for the direct drive of the LED display. Display modes are shown in Table 1. This output is tri-stated during initialization so that DSEL can be read./This three-level input controls the (See Datasheet)"

## BQ2054SNTRG4
designator U?
Switch-Mode Li-Ion Battery Charger in PDIP or SOIC Package, 4.5 V, 16-pin SOIC (D), Green (RoHS & no Sb/Br); PartNumber: BQ2054SNTRG4; Manufacturer: Texas Instruments; Lead Acid: N; Li-Ion: Y; SubFamily: Battery Charge Management; Vin(Min)(V): 4.5; PackageVersion: revM, Jun-2011; PackageReference: D16; PackageDescription: 16-Pin Plastic Small Outline Integrated Circuit, 9.9 x 3.9 mm, Pitch 1.27 mm Pitch; Supplier 1: Digi-Key; Supplier Part Number 1: BQ2054SNTRG4-ND; Supplier 2: Newark; Supplier Part Number 2: 03M6534; Supplier 3: Mouser; Supplier Part Number 3: 595-BQ2054SNTRG4; Eco-Plan: Green (RoHS & no Sb/Br); Li-Polymer: Y; NiCd: N; NiMH: N; Over Voltage Protection: N; Mounting Technology: Surface Mount; Code_JEDEC: MS-012AC; ComponentLink1Description: Datasheet; ComponentLink1URL: http://www.ti.com/general/docs/lit/getliterature.tsp?genericPartNumber=BQ2054&fileType=pdf
footprint D16_N (SOIC, 16-Leads, Body 9.9x3.9mm, Pitch 1.27mm, IPC Medium Density)
footprint D16_L (SOIC, 16-Leads, Body 9.9x3.9mm, Pitch 1.27mm, IPC High Density)
footprint D16_M (SOIC, 16-Leads, Body 9.9x3.9mm, Pitch 1.27mm, IPC Low Density)
pins: 1 TM (in) "This input sets the maximum charge time.The resistor and capacitor values are determined using Equation 5. Figure 7 shows the resistor/capacitor connection.", 2 ~{ICTL} (out) "I\C\T\L\ is driven low during the fault or charge-complete states of the chip. It is used to disconnect the capacitor across the battery pack terminals, preventing inrush currents from tripping overcurrent protection (See Datasheet)", 3 BAT (in) "BAT is the battery voltage sense input. This potential is generally developed using a high-impedance resistor divider network connected between the positive and the negative terminals of the battery. See Figure 4 and (See Datasheet)", 4 VCOMP (in) "This input uses an external R-C network for voltage loop stability", 5 ICOMP (in) "This input uses an external R-C network for current loop stability.", 6 ITERM "This three-state input is used to set IMIN for fast charge termination. See Table 2.", 7 SNS (in) "Battery current is sensed via the voltage developed on this pin by an external sense resistor,RSNS, connected in series with the negative terminal of the battery pack. See Equation 6.", 8 TS (in) "This input is used to monitor battery temperature.An external resistor divider network sets the lower and upper temperature thresholds.See Figure 6 and Equations 3 and 4.", 9 TPWM (in) "This input uses an external timing capacitor to ground to set the pulse-width modulation (PWM) frequency. See Equation 7.", 10 LED3 (hiz) "This charger status output driver is for the direct drive of the LED display. Display modes are shown in Table 1. These outputs are tri-stated during initialization so that DSEL can be read.", 11 LCOM (hiz) "Common output for LED1-3. This output is in a high-impedance state during initialization to read programming input on DSEL.", 12 VSS (power) "Ground", 13 VCC (power) "5.0V, +/- 10% power", 14 MOD (out) "MOD is a pulse-width modulated push/pull output that is used to control the charging current to the battery. MOD switches high to enable current flow and low to inhibit current flow.", 15 LED1 (hiz) "This charger status output driver is for the direct drive of the LED display. Display modes are shown in Table 1. This output is tri-stated during initialization so that DSEL can be read.", 16 LED2/DSEL (io) "This charger status output driver is for the direct drive of the LED display. Display modes are shown in Table 1. This output is tri-stated during initialization so that DSEL can be read./This three-level input controls the (See Datasheet)"

## BQ2057CDGK
designator U?
Low Dropout Linear 1-Cell Li-Ion Charge Controller with AutoCompTM, 4.5 V, -20 to 70 degC, 8-pin MSOP (DGK), Green (RoHS & no Sb/Br); PartNumber: BQ2057CDGK; Manufacturer: Texas Instruments; Lead Acid: N; Li-Ion: Y; SubFamily: Battery Charge Management; Vin(Min)(V): 4.5; DatasheetVersion: SLUS025F; PackageVersion: revE, May-2006; PackageReference: DGK8; PackageDescription: 8-Pin Thin Small Outline Package 3 x 3 mm Body ,0.65 mm Pitch; Supplier 1: Digi-Key; Supplier Part Number 1: 296-11991-5-ND; Supplier 2: Newark; Supplier Part Number 2: 74C7585; Supplier 3: Mouser; Supplier Part Number 3: 595-BQ2057CDGK; Eco-Plan: Green (RoHS & no Sb/Br); Li-Polymer: Y; NiCd: N; NiMH: N; Over Voltage Protection: N; Mounting Technology: Surface Mount; Code_JEDEC: MO-187-AA; ComponentLink1Description: Datasheet; ComponentLink1URL: http://www.ti.com/general/docs/lit/getliterature.tsp?genericPartNumber=BQ2057C&fileType=pdf
footprint DGK8_N (TSOP, 8-Leads, Body 3x3mm, Pitch 0.65mm, IPC Medium Density)
footprint DGK8_L (TSOP, 8-Leads, Body 3x3mm, Pitch 0.65mm, IPC High Density)
footprint DGK8_M (TSOP, 8-Leads, Body 3x3mm, Pitch 0.65mm, IPC Low Density)
pins: 1 VCC (power) "Supply voltage", 2 TS (in) "Temperature sense input", 3 STAT (hiz) "Charge status output", 4 VSS (power) "Ground", 5 CC (out) "Charge control output", 6 COMP (in) "Charge-rate compensation input (AutoComp)", 7 SNS (in) "Current sense input", 8 BAT (in) "Voltage sense input"

## BQ2057CDGKG4
designator U?
Low Dropout Linear 1-Cell Li-Ion Charge Controller with AutoCompTM, 4.5 V, -20 to 70 degC, 8-pin MSOP (DGK), Green (RoHS & no Sb/Br); PartNumber: BQ2057CDGKG4; Manufacturer: Texas Instruments; Lead Acid: N; Li-Ion: Y; SubFamily: Battery Charge Management; Vin(Min)(V): 4.5; DatasheetVersion: SLUS025F; PackageVersion: revE, May-2006; PackageReference: DGK8; PackageDescription: 8-Pin Thin Small Outline Package 3 x 3 mm Body ,0.65 mm Pitch; Supplier 1: Digi-Key; Supplier Part Number 1: BQ2057CDGKG4-ND; Supplier 2: Newark; Supplier Part Number 2: 80K1220; Supplier 3: Mouser; Supplier Part Number 3: 595-BQ2057CDGKG4; Eco-Plan: Green (RoHS & no Sb/Br); Li-Polymer: Y; NiCd: N; NiMH: N; Over Voltage Protection: N; Mounting Technology: Surface Mount; Code_JEDEC: MO-187-AA; ComponentLink1Description: Datasheet; ComponentLink1URL: http://www.ti.com/general/docs/lit/getliterature.tsp?genericPartNumber=BQ2057C&fileType=pdf
footprint DGK8_N (TSOP, 8-Leads, Body 3x3mm, Pitch 0.65mm, IPC Medium Density)
footprint DGK8_L (TSOP, 8-Leads, Body 3x3mm, Pitch 0.65mm, IPC High Density)
footprint DGK8_M (TSOP, 8-Leads, Body 3x3mm, Pitch 0.65mm, IPC Low Density)
pins: 1 VCC (power) "Supply voltage", 2 TS (in) "Temperature sense input", 3 STAT (hiz) "Charge status output", 4 VSS (power) "Ground", 5 CC (out) "Charge control output", 6 COMP (in) "Charge-rate compensation input (AutoComp)", 7 SNS (in) "Current sense input", 8 BAT (in) "Voltage sense input"

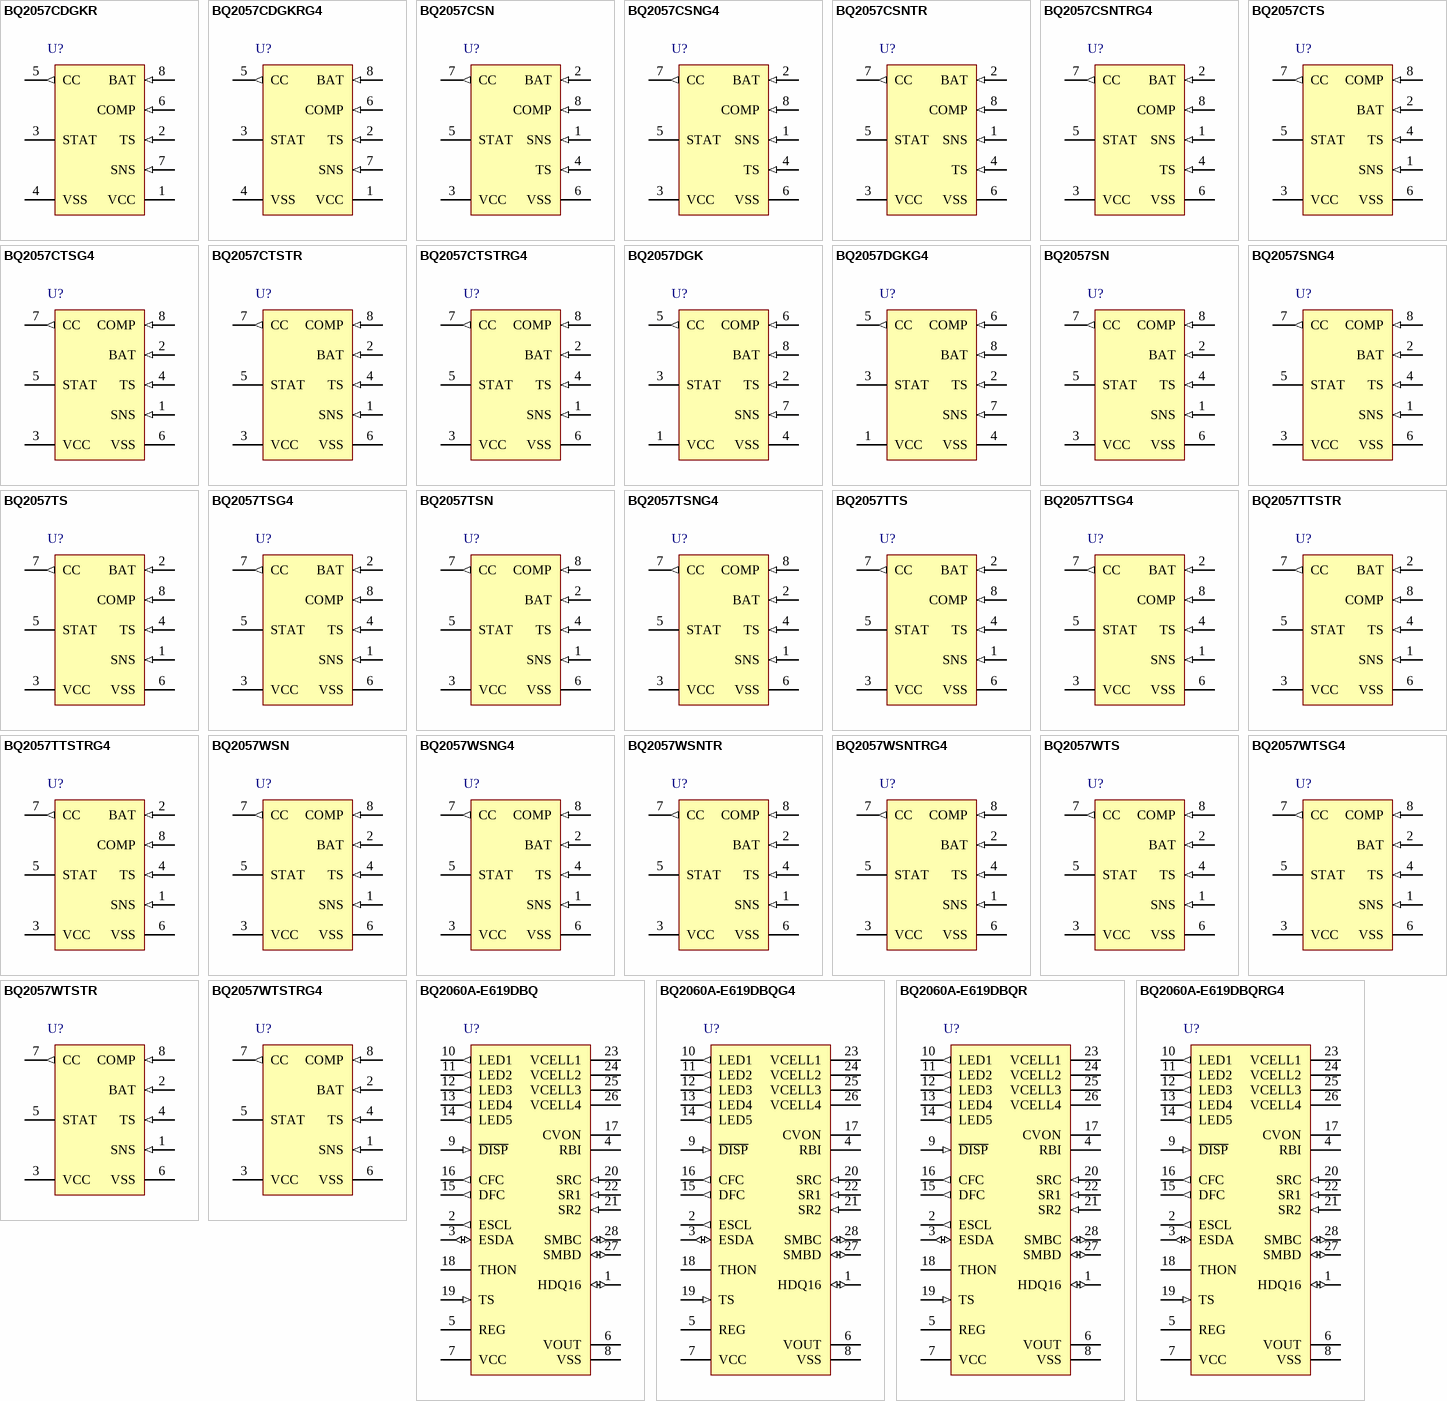
[diagram p8: symbols BQ2057CDGKR to BQ2060A-E619DBQRG4]

## BQ2057CDGKR
designator U?
Low Dropout Linear 1-Cell Li-Ion Charge Controller with AutoCompTM, 4.5 V, -20 to 70 degC, 8-pin MSOP (DGK), Green (RoHS & no Sb/Br); PartNumber: BQ2057CDGKR; Manufacturer: Texas Instruments; Lead Acid: N; Li-Ion: Y; SubFamily: Battery Charge Management; Vin(Min)(V): 4.5; DatasheetVersion: SLUS025F; PackageVersion: revE, May-2006; PackageReference: DGK8; PackageDescription: 8-Pin Thin Small Outline Package 3 x 3 mm Body ,0.65 mm Pitch; Supplier 1: Digi-Key; Supplier Part Number 1: 296-11991-2-ND; Supplier 2: Digi-Key; Supplier Part Number 2: 296-11991-1-ND; Supplier 3: Digi-Key; Supplier Part Number 3: 296-11991-6-ND; Supplier 4: Newark; Supplier Part Number 4: 74C7586; Supplier 5: Mouser; Supplier Part Number 5: 595-BQ2057CDGKR; Eco-Plan: Green (RoHS & no Sb/Br); Li-Polymer: Y; NiCd: N; NiMH: N; Over Voltage Protection: N; Mounting Technology: Surface Mount; Code_JEDEC: MO-187-AA; ComponentLink1Description: Datasheet; ComponentLink1URL: http://www.ti.com/general/docs/lit/getliterature.tsp?genericPartNumber=BQ2057C&fileType=pdf
footprint DGK8_N (TSOP, 8-Leads, Body 3x3mm, Pitch 0.65mm, IPC Medium Density)
footprint DGK8_L (TSOP, 8-Leads, Body 3x3mm, Pitch 0.65mm, IPC High Density)
footprint DGK8_M (TSOP, 8-Leads, Body 3x3mm, Pitch 0.65mm, IPC Low Density)
pins: 1 VCC (power) "Supply voltage", 2 TS (in) "Temperature sense input", 3 STAT (hiz) "Charge status output", 4 VSS (power) "Ground", 5 CC (out) "Charge control output", 6 COMP (in) "Charge-rate compensation input (AutoComp)", 7 SNS (in) "Current sense input", 8 BAT (in) "Voltage sense input"

## BQ2057CDGKRG4
designator U?
Low Dropout Linear 1-Cell Li-Ion Charge Controller with AutoCompTM, 4.5 V, -20 to 70 degC, 8-pin MSOP (DGK), Green (RoHS & no Sb/Br); PartNumber: BQ2057CDGKRG4; Manufacturer: Texas Instruments; Lead Acid: N; Li-Ion: Y; SubFamily: Battery Charge Management; Vin(Min)(V): 4.5; DatasheetVersion: SLUS025F; PackageVersion: revE, May-2006; PackageReference: DGK8; PackageDescription: 8-Pin Thin Small Outline Package 3 x 3 mm Body ,0.65 mm Pitch; Supplier 1: Digi-Key; Supplier Part Number 1: BQ2057CDGKRG4-ND; Supplier 2: Newark; Supplier Part Number 2: 69K8925; Supplier 3: Mouser; Supplier Part Number 3: 595-BQ2057CDGKRG4; Eco-Plan: Green (RoHS & no Sb/Br); Li-Polymer: Y; NiCd: N; NiMH: N; Over Voltage Protection: N; Mounting Technology: Surface Mount; Code_JEDEC: MO-187-AA; ComponentLink1Description: Datasheet; ComponentLink1URL: http://www.ti.com/general/docs/lit/getliterature.tsp?genericPartNumber=BQ2057C&fileType=pdf
footprint DGK8_N (TSOP, 8-Leads, Body 3x3mm, Pitch 0.65mm, IPC Medium Density)
footprint DGK8_L (TSOP, 8-Leads, Body 3x3mm, Pitch 0.65mm, IPC High Density)
footprint DGK8_M (TSOP, 8-Leads, Body 3x3mm, Pitch 0.65mm, IPC Low Density)
pins: 1 VCC (power) "Supply voltage", 2 TS (in) "Temperature sense input", 3 STAT (hiz) "Charge status output", 4 VSS (power) "Ground", 5 CC (out) "Charge control output", 6 COMP (in) "Charge-rate compensation input (AutoComp)", 7 SNS (in) "Current sense input", 8 BAT (in) "Voltage sense input"